# Altium schematic symbol library 35212K4FT.SchLib: 1 symbol
Pins are listed as number, name and electrical type; pins without a type are passive.

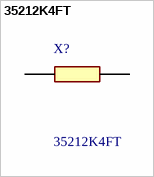
[diagram p0: symbol 35212K4FT]

## 35212K4FT
designator X?
Configuration Features: Number of Resistors 1 | Dimensions: Product Length 6.35 MM | Product Height .55 MM | Product Width .126 INCH | Product Length .25 INCH | Product Height .022 INCH | Product Width 3.2 MM | Electrical Characteristics: Passive Component Tolerance 1 PCT | Operating Voltage 250 V | Power Rating 2 WATT | Resistance Value 2.4K OHM | Resistance Class 1k  1M | Packaging Features: Packaging Method Taped & Reeled | Product Type Features: Package Size Code 2512 | Element Type Thick Film |; Manufacturer_Name: TE Connectivity; Geometry.Height: 0.65mm; Mouser Part Number: 279-35212K4FT; Mouser Price/Stock: https://www.mouser.co.uk/ProductDetail/TE-Connectivity-Holsworthy/35212K4FT?qs=gNX%2FqcWHakm%2F8zqShP7huQ%3D%3D; Manufacturer_Part_Number: 35212K4FT; Datasheet Link: https://www.te.com/commerce/DocumentDelivery/DDEController?Action=srchrtrv&DocNm=9-1773463-5&DocType=Data%20Sheet&DocLang=English&PartCntxt=5-2176070-8&DocFormat=pdf
footprint RESC6432X65N
pins: 1, 2